# Altium schematic symbol library 25Q16CTIG.SchLib: 1 symbol
Pins are listed as number, name and electrical type; pins without a type are passive.

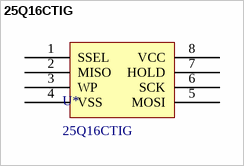
[diagram p0: symbol 25Q16CTIG]

## 25Q16CTIG
designator U*
footprint SOP8_M
pins: 1 SSEL, 2 MISO, 3 WP, 4 VSS, 5 MOSI, 6 SCK, 7 HOLD, 8 VCC